# Altium schematic symbol library QUTMS_OpAmpLibrary.SchLib: 3 symbols
Pins are listed as number, name and electrical type; pins without a type are passive.

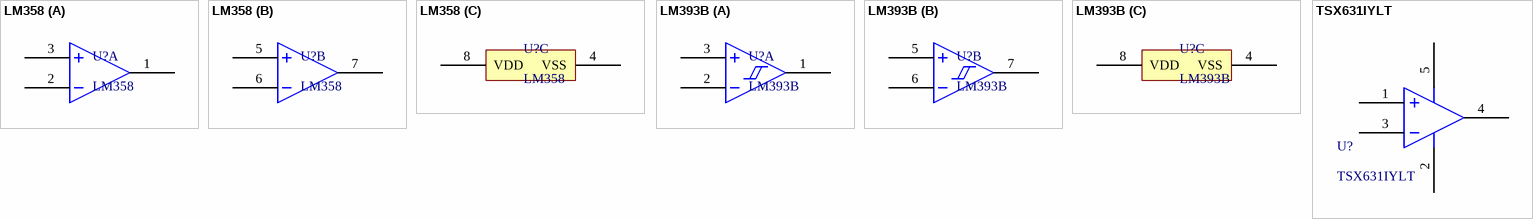
[diagram p0: symbols LM358 to TSX631IYLT]

## LM358
designator U?
General Purpose Amplifier 2 Circuit 8-SOIC
footprint SOIC-8
part A pins: 1 OUT1, 2 IN1-, 3 IN1+
part B pins: 5 IN2+, 6 IN2-, 7 OUT1
part C pins: 4 VSS, 8 VDD

## LM393B
designator U?
Comparator General Purpose Open-Collector 8-SOIC
footprint SOIC-8
part A pins: 1 OUT1, 2 IN1-, 3 IN1+
part B pins: 5 IN2+, 6 IN2-, 7 OUT1
part C pins: 4 VSS, 8 VDD

## TSX631IYLT
designator U?
General Purpose Amplifier 1 Circuit Rail-to-Rail SOT-23-5
footprint SOT-23-5
pins: 1, 2, 3, 4, 5